# EAGLE library part MA05-2 (library Custom)
PIN HEADER
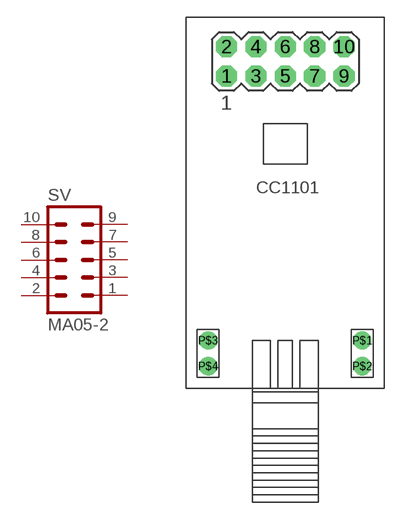
[diagram p57: symbol with the pads of CC1101_MOD_PAC; footprint CC1101_MOD_PAC]

Designator prefix SV

## MA05-2 (OC_FARNELL: unknown; OC_NEWARK: unknown)  [CC1101_MOD_PAC]
1  1  pas
2  2  pas
3  3  pas
4  4  pas
5  5  pas
6  6  pas
7  7  pas
8  8  pas
9  9  pas
10  10  pas

## Footprint CC1101_MOD_PAC (pad centres in mm)
PIN HEADER
drill 1.016 pad 1.829 octagon: 1 -5.08,-1.27; 2 -5.08,1.27; 3 -2.54,-1.27; 4 -2.54,1.27; 5 0,-1.27; 6 0,1.27; 7 2.54,-1.27; 8 2.54,1.27; 9 5.08,-1.27; 10 5.08,1.27
drill 0.6 pad 1.575: P$1 6.668,-24.13; P$2 6.668,-26.352; P$3 -6.668,-24.13; P$4 -6.668,-26.352